# EAGLE library part MCP3421-A* (library Microchip)
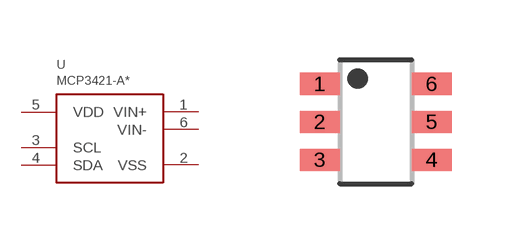
[diagram p5: symbol with the pads of SOT23-6; footprint SOT23-6]

Designator prefix U

## MCP3421-A0, MCP3421-A1, MCP3421-A2, MCP3421-A3, MCP3421-A4, MCP3421-A5, MCP3421-A6, MCP3421-A7  [SOT23-6]
1  VIN+
2  VSS
3  SCL
4  SDA
5  VDD
6  VIN-

## Footprint SOT23-6 (pad centres in mm)
smd 1 x 0.55: 1 -1.4,0.95; 2 -1.4,0; 3 -1.4,-0.95; 4 1.4,-0.95; 5 1.4,0; 6 1.4,0.95